# Altium footprint library Ai-Thinker.PcbLib: 1 footprints
Each footprint in its own frame and in the unit in brackets; x right, y up, seen from the top. Pads: shape width x height; smd on the part's side, far side on the other; paste and mask are expansions set on the pad; w line width, h text height; cw(c..) or ccw(c..) is an arc to the next point about the centre after c.
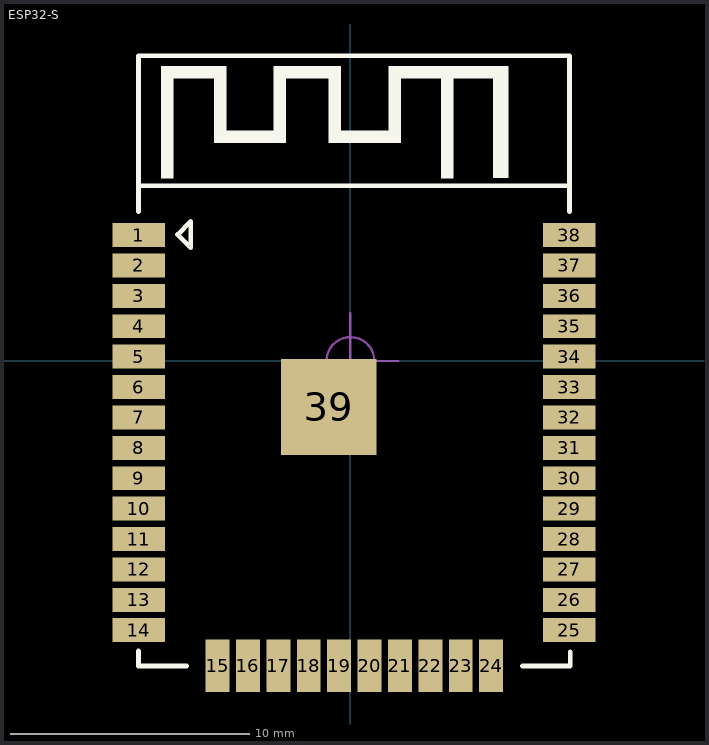
[diagram p0: the footprint, top view; thin cyan lines are the x and y axes]

## ESP32-S [mm]
pads (39):
  rect 2.2x1 smd: 1(-8.85,5.26) 2(-8.85,3.99) 3(-8.85,2.72) 4(-8.85,1.45) 5(-8.85,0.18) 6(-8.85,-1.09) 7(-8.85,-2.36) 8(-8.85,-3.63) 9(-8.85,-4.9) 10(-8.85,-6.17) 11(-8.85,-7.44) 12(-8.85,-8.71) 13(-8.85,-9.98) 14(-8.85,-11.25) 25(9.15,-11.25) 26(9.15,-9.98) 27(9.15,-8.71) 28(9.15,-7.44) 29(9.15,-6.17) 30(9.15,-4.9) 31(9.15,-3.63) 32(9.15,-2.36) 33(9.15,-1.09) 34(9.15,0.18) 35(9.15,1.45) 36(9.15,2.72) 37(9.15,3.99) 38(9.15,5.26)
  rect 1x2.2 smd: 15(-5.55,-12.74) 16(-4.28,-12.74) 17(-3.01,-12.74) 18(-1.74,-12.74) 19(-0.47,-12.74) 20(0.8,-12.74) 21(2.07,-12.74) 22(3.34,-12.74) 23(4.61,-12.74) 24(5.88,-12.74)
  rect 4x4 smd: 39(-0.91,-1.92)
Top Overlay:
  region: 6.602,12.063 6.602,7.648 5.975,7.648 5.975,12.063
  region: 6.602,11.811 6.602,12.311 1.602,12.311 1.602,9.611 -0.398,9.611 -0.398,12.311 -3.198,12.311 -3.198,9.611 -5.198,9.611 -5.198,12.311 -7.898,12.311 -7.898,7.637 -7.398,7.637 -7.398,11.811 -5.698,11.811 -5.698,9.111 -2.698,9.111 -2.698,11.811 -0.898,11.811 -0.898,9.111 2.102,9.111 2.102,11.811 3.802,11.811 3.802,7.637 4.302,7.637 4.302,11.811
  lines w0.2: -8.85,-12.749 -6.85,-12.749 ; -8.85,-12.709 -8.85,-12.109 ; -8.85,6.251 -8.85,12.751 9.15,12.751 9.15,6.251 ; -8.85,7.32 9.15,7.32 ; 7.18,-12.749 9.18,-12.749 ; 9.185,-12.749 9.185,-12.149 ; -7.22,5.28 -6.67,5.83 -6.67,4.73 -7.22,5.28 ; -7.22,5.28 -7.22,5.28
Mechanical 15:
  circle w0.1: c0,0 r1
  lines w0.1: -2,0 2,0 ; 0,-2 0,2
3D body "User Library-esp-wroom-32.STEP": height 3, standoff -0.04, extent -8.885,-12.749 9.185,12.791